# EAGLE library part 691413720015 (library Wurth_Elektronik_Electromechanic_Terminal_Blocks_Connectors_rev16b)
WR-TBL Terminal block - serie 413 5.0mm - Spring clamp/Screw less - 45° entry - 15p Code:Con_TBL_Screwless_5.00_6914137200xxB_691413720015 Created 2014-12-22, aslant tao 2014 (C) Würth Elektronik
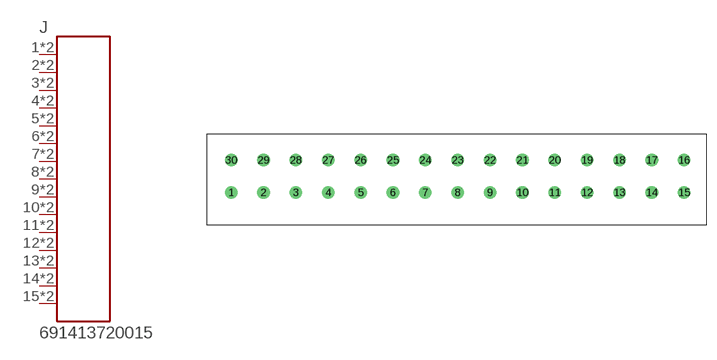
[diagram p262: symbol with the pads of 691413720015; footprint 691413720015]

Designator prefix J

## 691413720015  [691413720015]
1  1  pas
2  2  pas
3  3  pas
4  4  pas
5  5  pas
6  6  pas
7  7  pas
8  8  pas
9  9  pas
10  10  pas
11  11  pas
12  12  pas
13  13  pas
14  14  pas
15  15  pas
16  15  pas
17  14  pas
18  13  pas
19  12  pas
20  11  pas
21  10  pas
22  9  pas
23  8  pas
24  7  pas
25  6  pas
26  5  pas
27  4  pas
28  3  pas
29  2  pas
30  1  pas

## Footprint 691413720015 (pad centres in mm)
WR-TBL Serie 413 - 5.0mm Screwless 45° Entry - 3 mm2 Wires, 15 Pins
drill 1.3: 1 -5,-2.5; 2 0,-2.5; 3 5,-2.5; 4 10,-2.5; 5 15,-2.5; 6 20,-2.5; 7 25,-2.5; 8 30,-2.5; 9 35,-2.5; 10 40,-2.5; 11 45,-2.5; 12 50,-2.5; 13 55,-2.5; 14 60,-2.5; 15 65,-2.5; 16 65,2.5; 17 60,2.5; 18 55,2.5; 19 50,2.5; 20 45,2.5; 21 40,2.5; 22 35,2.5; 23 30,2.5; 24 25,2.5; 25 20,2.5; 26 15,2.5; 27 10,2.5; 28 5,2.5; 29 0,2.5; 30 -5,2.5